# Altium footprint library Infineon Power MOSFET.PcbLib: 137 footprints (part 8 of 9)
Each footprint in its own frame and in the unit in brackets; x right, y up, seen from the top. Pads: shape width x height; smd on the part's side, far side on the other; paste and mask are expansions set on the pad; w line width, h text height; cw(c..) or ccw(c..) is an arc to the next point about the centre after c.
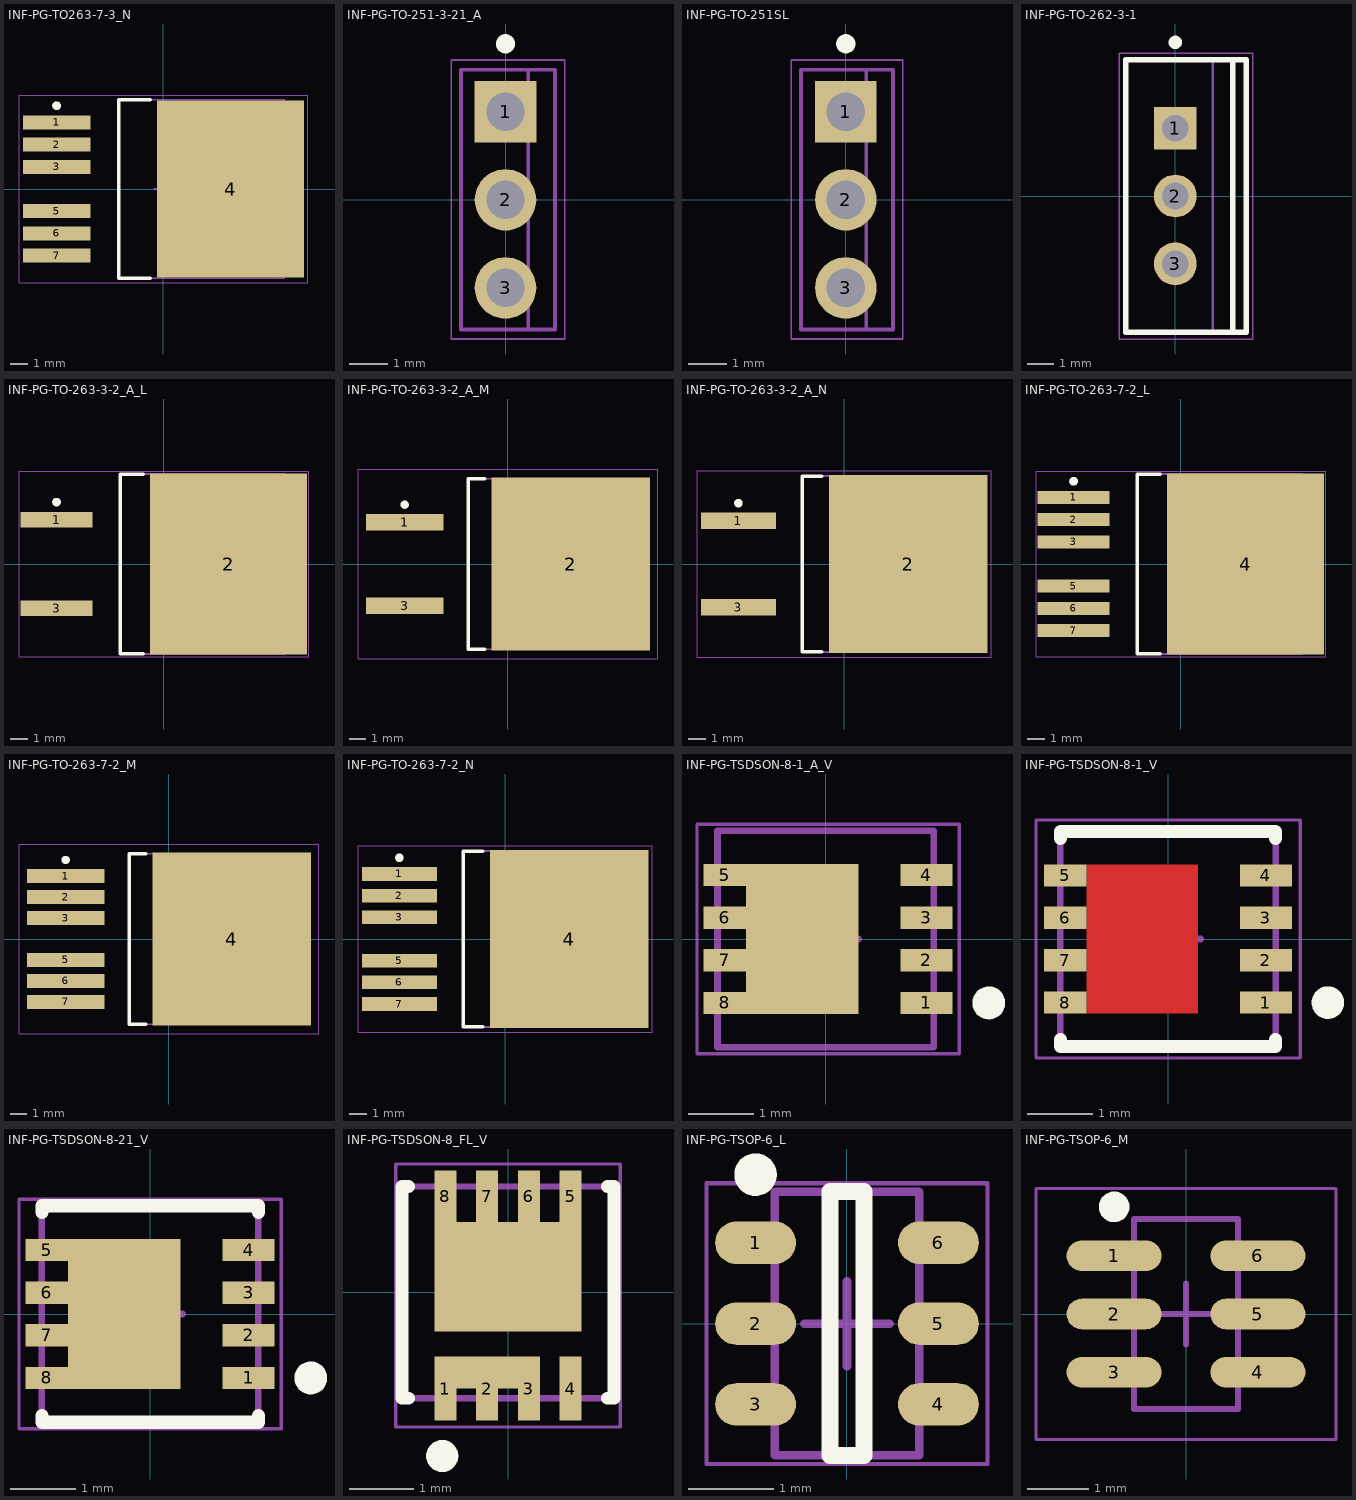
[diagram p7: the footprints below, top view; thin cyan lines are the x and y axes]

## INF-PG-TO263-7-3_N [mm] "DPAK, 7-Leads, Body 10x9.25mm, Pitch 1.27mm, IPC Medium Density"
height 4.4
pads (7):
  rect 3.85x0.8 smd: 1(-6.1,3.81) 2(-6.1,2.54) 3(-6.1,1.27) 5(-6.1,-1.27) 6(-6.1,-2.54) 7(-6.1,-3.81)
  rect 8.4x10.1 smd: 4(3.85,0)
Top Overlay:
  circle w0.25: c-6.1,4.76 r0.125
  lines w0.2: -0.75,-5.1 -2.55,-5.1 -2.55,5.1 -0.75,5.1
Mechanical 13:
  lines w0.1: -2.55,-5.1 6.9,-5.1 6.9,5.1 -2.55,5.1 -2.55,-5.1
Mechanical 15:
  lines w0.05: -8.25,-5.35 8.25,-5.35 8.25,5.35 -8.25,5.35 -8.25,-5.35
  lines w0.1: -0.5,0 0.5,0 ; 0,-0.5 0,0.5
3D body: height 4.4, standoff 0.1, extent -2.55,-5.1 6.9,5.1

## INF-PG-TO-251-3-21_A [mm] "FM, 3-Leads, Body 6.54x2.285mm, Pitch 2.29mm"
height 9.88
pads (3):
  rect 1.6x1.6 hole 1: 1(0,2.285)
  round 1.6 hole 1: 2(0,-0.005) 3(0,-2.295)
Top Overlay:
  circle w0.25: c0,4.05 r0.125
Mechanical 13:
  lines w0.1: 0.59,-3.375 0.59,3.375 ; -1.16,-3.375 -1.16,3.375 1.29,3.375 1.29,-3.375 -1.16,-3.375
Mechanical 15:
  lines w0.05: -1.41,-3.625 -1.41,3.625 1.54,3.625 1.54,-3.625 -1.41,-3.625
  lines w0.1: -0.5,0 0.5,0 ; 0,-0.5 0,0.5
3D body: height 1.9, standoff 0, extent -0.265,1.835 0.265,2.735
3D body: height 0, standoff -1.6, extent -0.265,1.9 0.265,2.67
3D body: height 1.9, standoff 0, extent -0.265,-0.455 0.265,0.445
3D body: height 0, standoff -1.6, extent -0.265,-0.39 0.265,0.38
3D body: height 1.9, standoff 0, extent -0.265,-2.745 0.265,-1.845
3D body: height 0, standoff -1.6, extent -0.265,-2.68 0.265,-1.91
3D body: height 8.73, standoff 1.9, extent -1.16,-3.375 1.29,3.375
3D body: height 9.88, standoff 8.73, extent 0.59,-2.625 1.29,2.625

## INF-PG-TO-251SL [mm] "FM, 3-Leads, Body 6.54x2.285mm, Pitch 2.29mm"
height 8.42
pads (3):
  rect 1.6x1.6 hole 1: 1(0,2.285)
  round 1.6 hole 1: 2(0,-0.005) 3(0,-2.295)
Top Overlay:
  circle w0.25: c0,4.05 r0.125
Mechanical 13:
  lines w0.1: 0.53,-3.375 0.53,3.375 ; -1.17,-3.375 -1.17,3.375 1.23,3.375 1.23,-3.375 -1.17,-3.375
Mechanical 15:
  lines w0.05: -1.42,-3.625 -1.42,3.625 1.48,3.625 1.48,-3.625 -1.42,-3.625
  lines w0.1: -0.5,0 0.5,0 ; 0,-0.5 0,0.5
3D body: height 0.9, standoff 0, extent -0.26,1.835 0.26,2.735
3D body: height 0, standoff -1.6, extent -0.26,1.9 0.26,2.67
3D body: height 0.9, standoff 0, extent -0.26,-0.455 0.26,0.445
3D body: height 0, standoff -1.6, extent -0.26,-0.39 0.26,0.38
3D body: height 0.9, standoff 0, extent -0.26,-2.745 0.26,-1.845
3D body: height 0, standoff -1.6, extent -0.26,-2.68 0.26,-1.91
3D body: height 7.42, standoff 0.9, extent -1.17,-3.375 1.23,3.375
3D body: height 8.42, standoff 7.42, extent 0.53,-2.625 1.23,2.625

## INF-PG-TO-262-3-1 [mm] "FM, 3-Leads, Body 10x4.4mm, Pitch 2.54mm"
height 15.5
pads (3):
  rect 1.6x1.6 hole 1: 1(0,2.54)
  round 1.6 hole 1: 2(0,0) 3(0,-2.54)
Top Overlay:
  circle w0.25: c0,5.75 r0.125
  lines w0.2: 2.15,-5.1 2.15,5.1 ; -1.85,-5.1 2.65,-5.1 2.65,5.1 -1.85,5.1 -1.85,-5.1
Mechanical 13:
  lines w0.1: 1.4,-5.1 1.4,5.1 ; -1.85,-5.1 -1.85,5.1 2.65,5.1 2.65,-5.1 -1.85,-5.1
Mechanical 15:
  lines w0.05: -2.1,-5.35 -2.1,5.35 2.9,5.35 2.9,-5.35 -2.1,-5.35
  lines w0.1: -0.5,0 0.5,0 ; 0,-0.5 0,0.5
3D body: height 4.35, standoff 0, extent -0.25,2.03 0.25,3.05
3D body: height 0, standoff -1.6, extent -0.25,2.165 0.25,2.915
3D body: height 4.35, standoff 0, extent -0.25,-0.51 0.25,0.51
3D body: height 0, standoff -1.6, extent -0.25,-0.375 0.25,0.375
3D body: height 4.35, standoff 0, extent -0.25,-3.05 0.25,-2.03
3D body: height 0, standoff -1.6, extent -0.25,-2.915 0.25,-2.165
3D body: height 14.5, standoff 4.35, extent -1.85,-5.1 2.65,5.1
3D body: height 15.5, standoff 14.5, extent 1.4,-5 2.65,5

## INF-PG-TO-263-3-2_A_L [mm] "DPAK, 3-Leads, Body 10.06x8.98mm, Pitch 2.54mm, IPC High Density"
height 4.57
pads (3):
  rect 4.1x0.9 smd: 1(-6.15,2.54) 3(-6.15,-2.54)
  rect 9x10.35 smd: 2(3.7,0)
Top Overlay:
  circle w0.25: c-6.15,3.54 r0.125
  lines w0.2: -1.2,-5.15 -2.5,-5.15 -2.5,5.15 -1.2,5.15
Mechanical 13:
  lines w0.1: -2.5,-5.15 6.95,-5.15 6.95,5.15 -2.5,5.15 -2.5,-5.15
Mechanical 15:
  lines w0.05: -8.3,-5.3 8.3,-5.3 8.3,5.3 -8.3,5.3 -8.3,-5.3
  lines w0.1: -0.5,0 0.5,0 ; 0,-0.5 0,0.5
3D body: height 4.57, standoff 0, extent -2.5,-5.15 6.95,5.15

## INF-PG-TO-263-3-2_A_M [mm] "DPAK, 3-Leads, Body 10.06x8.98mm, Pitch 2.54mm, IPC Low Density"
height 4.57
pads (3):
  rect 4.7x1 smd: 1(-6.25,2.54) 3(-6.25,-2.54)
  rect 9.6x10.45 smd: 2(3.8,0)
Top Overlay:
  circle w0.25: c-6.25,3.59 r0.125
  lines w0.2: -1.4,-5.15 -2.4,-5.15 -2.4,5.15 -1.4,5.15
Mechanical 13:
  lines w0.1: -2.4,-5.15 7.05,-5.15 7.05,5.15 -2.4,5.15 -2.4,-5.15
Mechanical 15:
  lines w0.05: -9.075,-5.725 9.075,-5.725 9.075,5.725 -9.075,5.725 -9.075,-5.725
  lines w0.1: -0.5,0 0.5,0 ; 0,-0.5 0,0.5
3D body: height 4.57, standoff 0, extent -2.4,-5.15 7.05,5.15

## INF-PG-TO-263-3-2_A_N [mm] "DPAK, 3-Leads, Body 10.06x8.98mm, Pitch 2.54mm, IPC Medium Density"
height 4.57
pads (3):
  rect 4.4x0.95 smd: 1(-6.2,2.54) 3(-6.2,-2.54)
  rect 9.3x10.4 smd: 2(3.75,0)
Top Overlay:
  circle w0.25: c-6.2,3.565 r0.125
  lines w0.2: -1.3,-5.15 -2.45,-5.15 -2.45,5.15 -1.3,5.15
Mechanical 13:
  lines w0.1: -2.45,-5.15 7,-5.15 7,5.15 -2.45,5.15 -2.45,-5.15
Mechanical 15:
  lines w0.05: -8.625,-5.45 8.625,-5.45 8.625,5.45 -8.625,5.45 -8.625,-5.45
  lines w0.1: -0.5,0 0.5,0 ; 0,-0.5 0,0.5
3D body: height 4.57, standoff 0, extent -2.45,-5.15 7,5.15

## INF-PG-TO-263-7-2_L [mm] "DPAK, 7-Leads, Body 10.1x8.98mm, Pitch 1.27mm, IPC High Density"
height 4.57
pads (7):
  rect 4.1x0.75 smd: 1(-6.15,3.81) 2(-6.15,2.54) 3(-6.15,1.27) 5(-6.15,-1.27) 6(-6.15,-2.54) 7(-6.15,-3.81)
  rect 9x10.35 smd: 4(3.7,0)
Top Overlay:
  circle w0.25: c-6.15,4.735 r0.125
  lines w0.2: -1.2,-5.15 -2.5,-5.15 -2.5,5.15 -1.2,5.15
Mechanical 13:
  lines w0.1: -2.5,-5.15 6.95,-5.15 6.95,5.15 -2.5,5.15 -2.5,-5.15
Mechanical 15:
  lines w0.05: -8.3,-5.3 8.3,-5.3 8.3,5.3 -8.3,5.3 -8.3,-5.3
  lines w0.1: -0.5,0 0.5,0 ; 0,-0.5 0,0.5
3D body: height 4.57, standoff 0, extent -2.5,-5.15 6.95,5.15

## INF-PG-TO-263-7-2_M [mm] "DPAK, 7-Leads, Body 10.1x8.98mm, Pitch 1.27mm, IPC Low Density"
height 4.57
pads (7):
  rect 4.7x0.85 smd: 1(-6.25,3.81) 2(-6.25,2.54) 3(-6.25,1.27) 5(-6.25,-1.27) 6(-6.25,-2.54) 7(-6.25,-3.81)
  rect 9.6x10.45 smd: 4(3.8,0)
Top Overlay:
  circle w0.25: c-6.25,4.785 r0.125
  lines w0.2: -1.4,-5.15 -2.4,-5.15 -2.4,5.15 -1.4,5.15
Mechanical 13:
  lines w0.1: -2.4,-5.15 7.05,-5.15 7.05,5.15 -2.4,5.15 -2.4,-5.15
Mechanical 15:
  lines w0.05: -9.075,-5.725 9.075,-5.725 9.075,5.725 -9.075,5.725 -9.075,-5.725
  lines w0.1: -0.5,0 0.5,0 ; 0,-0.5 0,0.5
3D body: height 4.57, standoff 0, extent -2.4,-5.15 7.05,5.15

## INF-PG-TO-263-7-2_N [mm] "DPAK, 7-Leads, Body 10.1x8.98mm, Pitch 1.27mm, IPC Medium Density"
height 4.57
pads (7):
  rect 4.4x0.8 smd: 1(-6.2,3.81) 2(-6.2,2.54) 3(-6.2,1.27) 5(-6.2,-1.27) 6(-6.2,-2.54) 7(-6.2,-3.81)
  rect 9.3x10.4 smd: 4(3.75,0)
Top Overlay:
  circle w0.25: c-6.2,4.76 r0.125
  lines w0.2: -1.3,-5.15 -2.45,-5.15 -2.45,5.15 -1.3,5.15
Mechanical 13:
  lines w0.1: -2.45,-5.15 7,-5.15 7,5.15 -2.45,5.15 -2.45,-5.15
Mechanical 15:
  lines w0.05: -8.625,-5.45 8.625,-5.45 8.625,5.45 -8.625,5.45 -8.625,-5.45
  lines w0.1: -0.5,0 0.5,0 ; 0,-0.5 0,0.5
3D body: height 4.57, standoff 0, extent -2.45,-5.15 7,5.15

## INF-PG-TSDSON-8-1_A_V [mm] "TSDSON, 8-Leads, Body 3.3x3.3mm, Pitch 0.65mm"
height 1
pads (9):
  rect 0.8x0.34 smd: 1(1.538,-0.975) 2(1.538,-0.325) 3(1.538,0.325) 4(1.538,0.975)
  rect 0.65x0.34 smd: 5(-1.538,0.975) 6(-1.538,0.325) 7(-1.538,-0.325) 8(-1.538,-0.975)
  rect 1.71x2.29 smd: ""(-0.358,0)
Top Overlay:
  circle w0.25: c2.488,-0.975 r0.125
Mechanical 13:
  lines w0.1: -1.65,-1.65 -1.65,1.65 1.65,1.65 1.65,-1.65 -1.65,-1.65
Mechanical 15:
  lines w0.05: -1.963,-1.75 -1.963,1.75 2.038,1.75 2.038,-1.75 -1.963,-1.75
  lines w0.1: -0.5,0 0.5,0 ; 0,-0.5 0,0.5
3D body: height 1, standoff 0, extent -1.65,-1.65 1.65,1.65

## INF-PG-TSDSON-8-1_V [mm] "TSDSON, 8-Leads, Body 3.3x3.3mm, Pitch 0.65mm"
height 1.1
pads (8):
  rect 0.8x0.34 smd: 1(1.5,-0.975) 2(1.5,-0.325) 3(1.5,0.325) 4(1.5,0.975)
  rect 0.65x0.34 smd: 5(-1.575,0.975) 6(-1.575,0.325) 7(-1.575,-0.325) 8(-1.575,-0.975)
Top Layer:
  rectangle: -1.25,-1.145 0.46,1.145
Top Overlay:
  circle w0.25: c2.45,-0.975 r0.125
  lines w0.2: -1.65,-1.545 -1.65,-1.65 1.65,-1.65 1.65,-1.545 ; -1.65,1.545 -1.65,1.65 1.65,1.65 1.65,1.545
Mechanical 13:
  lines w0.1: -1.65,-1.65 1.65,-1.65 1.65,1.65 -1.65,1.65 -1.65,-1.65
Mechanical 15:
  lines w0.05: -2.025,-1.825 -2.025,1.825 2.025,1.825 2.025,-1.825 -2.025,-1.825
  lines w0.1: -0.5,0 0.5,0 ; 0,-0.5 0,0.5
3D body: height 1.1, standoff 0, extent -1.65,-1.65 1.65,1.65

## INF-PG-TSDSON-8-21_V [mm] "SON, 8-Leads, Body 3.3x3.3mm, Pitch 0.65mm"
height 1
pads (9):
  rect 0.8x0.34 smd: 1(1.5,-0.975) 2(1.5,-0.325) 3(1.5,0.325) 4(1.5,0.975)
  rect 0.65x0.34 smd: 5(-1.575,0.975) 6(-1.575,0.325) 7(-1.575,-0.325) 8(-1.575,-0.975)
  rect 1.71x2.29 smd: ""(-0.395,0)
Top Overlay:
  circle w0.25: c2.45,-0.975 r0.125
  lines w0.2: -1.65,-1.55 -1.65,-1.65 1.65,-1.65 1.65,-1.55 ; -1.65,1.55 -1.65,1.65 1.65,1.65 1.65,1.55
Mechanical 13:
  lines w0.1: -1.65,-1.65 -1.65,1.65 1.65,1.65 1.65,-1.65 -1.65,-1.65
Mechanical 15:
  lines w0.05: -2,-1.75 -2,1.75 2,1.75 2,-1.75 -2,-1.75
  lines w0.1: -0.5,0 0.5,0 ; 0,-0.5 0,0.5
3D body: height 1, standoff 0, extent -1.65,-1.65 1.65,1.65

## INF-PG-TSDSON-8_FL_V [mm] "TSDSON, 8-Leads, Body 3.3x3.3mm, Pitch 0.65mm"
height 1.1
pads (10):
  rect 0.34x1 smd mask+0.102: 1(-0.975,-1.5) 2(-0.325,-1.5) 4(0.975,-1.5)
  rect 0.34x1 smd: 3(0.325,-1.5)
  rect 0.34x0.8 smd mask+0.102: 5(0.975,1.5) 6(0.325,1.5) 7(-0.325,1.5) 8(-0.975,1.5)
  rect 1.64x0.5 smd mask+0.102: ""(-0.325,-1.25)
  rect 2.29x1.71 smd mask+0.102: ""(0,0.245)
Top Overlay:
  circle w0.25: c-1.025,-2.55 r0.125
  lines w0.2: -1.55,-1.65 -1.65,-1.65 -1.65,1.65 -1.55,1.65 ; 1.55,-1.65 1.65,-1.65 1.65,1.65 1.55,1.65
Mechanical 13:
  lines w0.1: -1.65,-1.65 -1.65,1.65 1.65,1.65 1.65,-1.65 -1.65,-1.65
Mechanical 15:
  lines w0.05: -1.75,-2.1 -1.75,2 1.75,2 1.75,-2.1 -1.75,-2.1
  lines w0.1: -0.5,0 0.5,0 ; 0,-0.5 0,0.5
3D body: height 1.1, standoff 0, extent -1.65,-1.65 1.65,1.65

## INF-PG-TSOP-6_L [mm] "SOP, 6-Leads, Body 2.9x1.6mm, Pitch 0.95mm, IPC High Density"
height 1.1
pads (6):
  oval 0.95x0.5 smd: 1(-1.075,0.95) 2(-1.075,0) 3(-1.075,-0.95) 4(1.075,-0.95) 5(1.075,0) 6(1.075,0.95)
Top Overlay:
  circle w0.25: c-1.075,1.75 r0.125
  lines w0.2: -0.2,-1.55 -0.2,1.55 0.2,1.55 0.2,-1.55 -0.2,-1.55
Mechanical 13:
  lines w0.1: -0.85,-1.55 -0.85,1.55 0.85,1.55 0.85,-1.55 -0.85,-1.55
Mechanical 15:
  lines w0.05: -1.65,-1.65 -1.65,1.65 1.65,1.65 1.65,-1.65 -1.65,-1.65
  lines w0.1: -0.5,0 0.5,0 ; 0,-0.5 0,0.5
3D body: height 1.1, standoff 0.1, extent -0.85,-1.55 0.85,1.55

## INF-PG-TSOP-6_M [mm] "SOP, 6-Leads, Body 2.9x1.6mm, Pitch 0.95mm, IPC Low Density"
height 1.1
pads (6):
  oval 1.55x0.5 smd: 1(-1.175,0.95) 2(-1.175,0) 3(-1.175,-0.95) 4(1.175,-0.95) 5(1.175,0) 6(1.175,0.95)
Top Overlay:
  circle w0.25: c-1.175,1.75 r0.125
Mechanical 13:
  lines w0.1: -0.85,-1.55 -0.85,1.55 0.85,1.55 0.85,-1.55 -0.85,-1.55
Mechanical 15:
  lines w0.05: -2.45,-2.05 -2.45,2.05 2.45,2.05 2.45,-2.05 -2.45,-2.05
  lines w0.1: -0.5,0 0.5,0 ; 0,-0.5 0,0.5
3D body: height 1.1, standoff 0.1, extent -0.85,-1.55 0.85,1.55